# Altium footprint library dolphi_emblab.PcbLib: 128 footprints (part 6 of 8)
Each footprint in its own frame and in the unit in brackets; x right, y up, seen from the top. Pads: shape width x height; smd on the part's side, far side on the other; paste and mask are expansions set on the pad; w line width, h text height; cw(c..) or ccw(c..) is an arc to the next point about the centre after c.
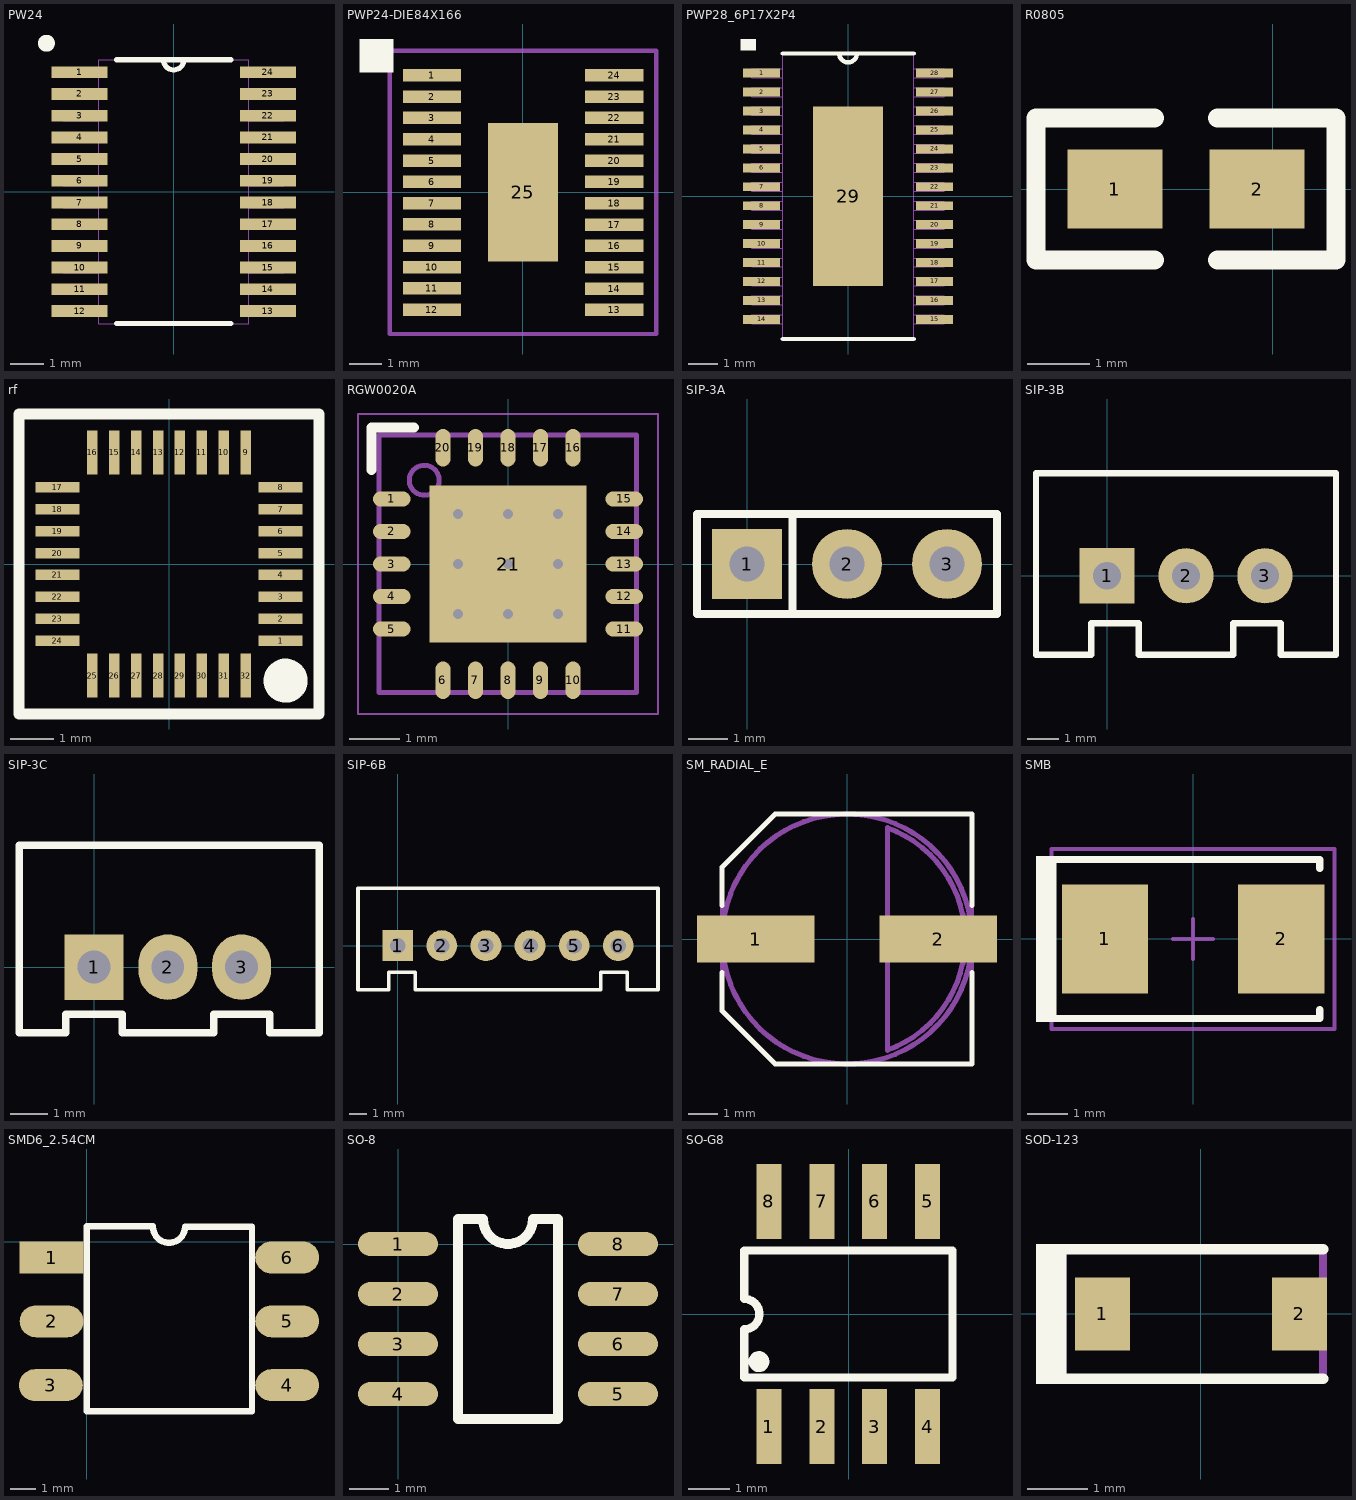
[diagram p5: the footprints below, top view; thin cyan lines are the x and y axes]

## PW24 [mil]
pads (24):
  rect 66x14 smd: 1(-111,140.75) 2(-111,115.16) 3(-111,89.57) 4(-111,63.98) 5(-111,38.39) 6(-111,12.8) 7(-111,-12.8) 8(-111,-38.39) 9(-111,-63.98) 10(-111,-89.57) 11(-111,-115.16) 12(-111,-140.75) 13(111,-140.75) 14(111,-115.16) 15(111,-89.57) 16(111,-63.98) 17(111,-38.39) 18(111,-12.8) 19(111,12.8) 20(111,38.39) 21(111,63.98) 22(111,89.57) 23(111,115.16) 24(111,140.75)
Top Overlay:
  circle w10: c-150,175 r5
  lines w6: -67.44,-155.5 67.44,-155.5 ; -67.44,155.5 67.44,155.5 ; -12,155.5 ccw(c0,155.5) 12,155.5
Mechanical 1:
  lines w0: -130,-95.57 -88.5,-95.57 -88.5,-83.57 -130,-83.57 ; -12,155.5 ccw(c0,155.5) 12,155.5 ; 130,32.39 88.5,32.39 88.5,44.39 130,44.39 ; 130,57.98 88.5,57.98 88.5,69.98 130,69.98 ; -130,-146.75 -130,-134.75 -88.5,-134.75 -88.5,-146.75 -130,-146.75 ; -130,-121.16 -130,-109.16 -88.5,-109.16 -88.5,-121.16 -130,-121.16 ; -130,-69.98 -130,-57.98 -88.5,-57.98 -88.5,-69.98 -130,-69.98 ; -130,-44.39 -130,-32.39 -88.5,-32.39 -88.5,-44.39 -130,-44.39 ; -130,-18.8 -130,-6.8 -88.5,-6.8 -88.5,-18.8 -130,-18.8 ; -130,6.8 -130,18.8 -88.5,18.8 -88.5,6.8 -130,6.8 ; -130,32.39 -130,44.39 -88.5,44.39 -88.5,32.39 -130,32.39 ; -130,57.98 -130,69.98 -88.5,69.98 -88.5,57.98 -130,57.98 ; -130,83.57 -130,95.57 -88.5,95.57 -88.5,83.57 -130,83.57 ; -130,109.16 -130,121.16 -88.5,121.16 -88.5,109.16 -130,109.16 ; -130,134.75 -130,146.75 -88.5,146.75 -88.5,134.75 -130,134.75 ; -88.5,-155.5 88.5,-155.5 88.5,155.5 -88.5,155.5 -88.5,-155.5 ; 88.5,-146.75 88.5,-134.75 130,-134.75 130,-146.75 88.5,-146.75 ; 88.5,-121.16 88.5,-109.16 130,-109.16 130,-121.16 88.5,-121.16 ; 88.5,-95.57 88.5,-83.57 130,-83.57 130,-95.57 88.5,-95.57 ; 88.5,-69.98 88.5,-57.98 130,-57.98 130,-69.98 88.5,-69.98 ; 88.5,-44.39 88.5,-32.39 130,-32.39 130,-44.39 88.5,-44.39 ; 88.5,-18.8 88.5,-6.8 130,-6.8 130,-18.8 88.5,-18.8 ; 88.5,6.8 88.5,18.8 130,18.8 130,6.8 88.5,6.8 ; 88.5,83.57 88.5,95.57 130,95.57 130,83.57 88.5,83.57 ; 88.5,109.16 88.5,121.16 130,121.16 130,109.16 88.5,109.16 ; 88.5,134.75 88.5,146.75 130,146.75 130,134.75 88.5,134.75

## PWP24-DIE84X166 [mil]
pads (25):
  rect 70x15 smd: 1(-109.3,140.5) 2(-109.3,114.9) 3(-109.3,89.3) 4(-109.3,63.7) 5(-109.3,38.1) 6(-109.3,12.5) 7(-109.3,-13.1) 8(-109.3,-38.7) 9(-109.3,-64.3) 10(-109.3,-89.9) 11(-109.3,-115.5) 12(-109.3,-141.1) 13(109.7,-141.2) 14(109.7,-115.6) 15(109.7,-90) 16(109.7,-64.4) 17(109.7,-38.8) 18(109.7,-13.2) 19(109.7,12.4) 20(109.7,38) 21(109.7,63.6) 22(109.7,89.2) 23(109.7,114.8) 24(109.7,140.5)
  rect 84x166 smd: 25(0,-0.1)
Top Overlay:
  region: -196,144 -156,144 -156,184 -196,184
Mechanical 5:
  lines w5: -160,-170.1 160,-170.1 160,169.9 -160,169.9 -160,-170.1
  text "*" at -76.6,162.6 h30
  text ".Designator" at -45,-10 h35

## PWP28_6P17X2P4 [mil]
pads (29):
  rect 50x12 smd: 1(-117,166.34) 2(-117,140.75) 3(-117,115.16) 4(-117,89.57) 5(-117,63.98) 6(-117,38.39) 7(-117,12.8) 8(-117,-12.8) 9(-117,-38.39) 10(-117,-63.98) 11(-117,-89.57) 12(-117,-115.16) 13(-117,-140.75) 14(-117,-166.34) 15(117,-166.34) 16(117,-140.75) 17(117,-115.16) 18(117,-89.57) 19(117,-63.98) 20(117,-38.39) 21(117,-12.8) 22(117,12.8) 23(117,38.39) 24(117,63.98) 25(117,89.57) 26(117,115.16) 27(117,140.75) 28(117,166.34)
  rect 94.49x242.91 smd: 29(0,0)
Top Overlay:
  region: -145,212.5 -135,212.5 -135,197.5 -145,197.5
  region: -125,212.5 -135,212.5 -135,197.5 -125,197.5
  lines w6: -88.5,-192.91 88.5,-192.91 ; -88.5,192.91 88.5,192.91 ; -12,192.91 ccw(c0,192.91) 12,192.91
Mechanical 1:
  lines w0: -12,192.91 ccw(c0,192.91) 12,192.91 ; -130,-172.34 -88.5,-172.34 -88.5,-160.34 -130,-160.34 -130,-172.34 ; -130,-146.75 -88.5,-146.75 -88.5,-134.75 -130,-134.75 -130,-146.75 ; -130,-121.16 -88.5,-121.16 -88.5,-109.16 -130,-109.16 -130,-121.16 ; -130,-95.57 -88.5,-95.57 -88.5,-83.57 -130,-83.57 -130,-95.57 ; -130,-69.98 -88.5,-69.98 -88.5,-57.98 -130,-57.98 -130,-69.98 ; -130,-44.39 -88.5,-44.39 -88.5,-32.39 -130,-32.39 -130,-44.39 ; -130,-18.8 -88.5,-18.8 -88.5,-6.8 -130,-6.8 -130,-18.8 ; -130,6.8 -88.5,6.8 -88.5,18.8 -130,18.8 -130,6.8 ; -130,32.39 -88.5,32.39 -88.5,44.39 -130,44.39 -130,32.39 ; -130,57.98 -88.5,57.98 -88.5,69.98 -130,69.98 -130,57.98 ; -130,83.57 -88.5,83.57 -88.5,95.57 -130,95.57 -130,83.57 ; -130,109.16 -88.5,109.16 -88.5,121.16 -130,121.16 -130,109.16 ; -130,134.75 -88.5,134.75 -88.5,146.75 -130,146.75 -130,134.75 ; -130,160.34 -88.5,160.34 -88.5,172.34 -130,172.34 -130,160.34 ; -88.5,-192.91 -88.5,192.91 88.5,192.91 88.5,-192.91 -88.5,-192.91 ; 88.5,-172.34 130,-172.34 130,-160.34 88.5,-160.34 88.5,-172.34 ; 88.5,-146.75 130,-146.75 130,-134.75 88.5,-134.75 88.5,-146.75 ; 88.5,-121.16 130,-121.16 130,-109.16 88.5,-109.16 88.5,-121.16 ; 88.5,-95.57 130,-95.57 130,-83.57 88.5,-83.57 88.5,-95.57 ; 88.5,-69.98 130,-69.98 130,-57.98 88.5,-57.98 88.5,-69.98 ; 88.5,-44.39 130,-44.39 130,-32.39 88.5,-32.39 88.5,-44.39 ; 88.5,-18.8 130,-18.8 130,-6.8 88.5,-6.8 88.5,-18.8 ; 88.5,6.8 130,6.8 130,18.8 88.5,18.8 88.5,6.8 ; 88.5,32.39 130,32.39 130,44.39 88.5,44.39 88.5,32.39 ; 88.5,57.98 130,57.98 130,69.98 88.5,69.98 88.5,57.98 ; 88.5,83.57 130,83.57 130,95.57 88.5,95.57 88.5,83.57 ; 88.5,109.16 130,109.16 130,121.16 88.5,121.16 88.5,109.16 ; 88.5,134.75 130,134.75 130,146.75 88.5,146.75 88.5,134.75 ; 88.5,160.34 130,160.34 130,172.34 88.5,172.34 88.5,160.34

## R0805 [mil]
pads (2):
  rect 60x50 smd: 1(-100,0) 2(-10,0)
Top Overlay:
  lines w12: -75,-45 -150,-45 -150,45 -75,45 ; -35,-45 40,-45 40,45 -35,45

## rf [mm]
pads (32):
  rect 1x0.24 smd: 1(2.55,-1.75) 2(2.55,-1.25) 3(2.55,-0.75) 4(2.55,-0.25) 5(2.55,0.25) 6(2.55,0.75) 7(2.55,1.25) 8(2.55,1.75) 17(-2.55,1.75) 18(-2.55,1.25) 19(-2.55,0.75) 20(-2.55,0.25) 21(-2.55,-0.25) 22(-2.55,-0.75) 23(-2.55,-1.25) 24(-2.55,-1.75)
  rect 0.24x1 smd: 9(1.75,2.55) 10(1.25,2.55) 11(0.75,2.55) 12(0.25,2.55) 13(-0.25,2.55) 14(-0.75,2.55) 15(-1.25,2.55) 16(-1.75,2.55) 25(-1.75,-2.55) 26(-1.25,-2.55) 27(-0.75,-2.55) 28(-0.25,-2.55) 29(0.25,-2.55) 30(0.75,-2.55) 31(1.25,-2.55) 32(1.75,-2.55)
Top Overlay:
  circle w0.5: c2.667,-2.667 r0.254
  lines w0.254: -3.429,-3.429 -3.429,3.429 3.429,3.429 3.429,-3.429 -3.429,-3.429

## RGW0020A [mm] "QFN, 20-Leads, Body 5x5mm, Pitch 0.65mm, Thermal Pad 3.15x3.15mm, TI Recommended"
height 1
pads (21):
  oval 0.75x0.3 smd mask+0.07: 1(-2.325,1.3) 2(-2.325,0.65) 3(-2.325,0) 4(-2.325,-0.65) 5(-2.325,-1.3) 11(2.325,-1.3) 12(2.325,-0.65) 13(2.325,0) 14(2.325,0.65) 15(2.325,1.3)
  oval 0.3x0.75 smd mask+0.07: 6(-1.3,-2.325) 7(-0.65,-2.325) 8(0,-2.325) 9(0.65,-2.325) 10(1.3,-2.325) 16(1.3,2.325) 17(0.65,2.325) 18(0,2.325) 19(-0.65,2.325) 20(-1.3,2.325)
  rect 3.15x3.15 smd paste-1.575 mask+0.07: 21(0,0)
via -1,1 diameter 0.5 hole 0.2
via 0,1 diameter 0.5 hole 0.2
via 1,1 diameter 0.5 hole 0.2
via -1,0 diameter 0.5 hole 0.2
via 0,0 diameter 0.5 hole 0.2
via 1,0 diameter 0.5 hole 0.2
via -1,-1 diameter 0.5 hole 0.2
via 0,-1 diameter 0.5 hole 0.2
via 1,-1 diameter 0.5 hole 0.2
Top Overlay:
  lines w0.2: -2.725,1.875 -2.725,2.725 -1.875,2.725
Top Paste:
  rectangle: 0.1,0.1 1.468,1.468
  region: -0.1,1.468 -1.468,1.468 -1.468,0.1 -0.1,0.1
  region: -0.1,-0.1 -1.468,-0.1 -1.468,-1.468 -0.1,-1.468
  rectangle: 0.1,-1.468 1.468,-0.1
Mechanical 5:
  circle w0.1: c-1.675,1.675 r0.3
  lines w0.1: -2.575,-2.575 -2.575,2.575 2.575,2.575 2.575,-2.575 -2.575,-2.575
Mechanical 15:
  lines w0.05: -3,-3 -3,3 3,3 3,-3 -3,-3
  lines w0.1: -0.5,0 0.5,0 ; 0,-0.5 0,0.5
3D body: height 1, standoff 0, extent -2.575,-2.575 2.575,2.575
3D body: height 1.01, standoff 0.5, extent -1.98,1.37 -1.37,1.98

## SIP-3A [mil]
pads (3):
  rect 70x70 hole 35: 1(0,0)
  round 70 hole 35: 2(100,0) 3(200,0)
Top Overlay:
  lines w8: 45.67,-49.21 45.67,47.24 ; -50,-50 -50,50 250,50 250,-50 -50,-50

## SIP-3B [mil] "间距2.54mm"
pads (3):
  rect 70x70 hole 35: 1(0,0)
  round 70 hole 35: 2(100,0) 3(200,0)
Top Overlay:
  lines w8: -90,-100 -20,-100 -20,-60 40,-60 40,-100 160,-100 160,-60 220,-60 220,-100 290,-100 290,130 -90,130 -90,-100

## SIP-3C [mil] "间距2mm"
pads (3):
  rect 62.99x70 hole 35: 1(0,0)
  oval 62.99x70 hole 35: 2(78.74,0) 3(157.48,0)
Top Overlay:
  lines w8: -80,-70 -30,-70 -30,-50 30,-50 30,-70 127.48,-70 127.48,-50 187.48,-50 187.48,-70 240,-70 240,130 -80,130 -80,-70

## SIP-6B [mil]
height 270.08
pads (6):
  rect 70x70 hole 35: 1(0,0)
  round 70 hole 35: 2(100,0) 3(200,0) 4(300,0) 5(400,0) 6(500,0)
Top Overlay:
  lines w8: -90,-100 -90,130 590,130 590,-100 520,-100 520,-60 460,-60 460,-100 40,-100 40,-60 -20,-60 -20,-100 -90,-100

## SM_RADIAL_E [mm] "8 x 6.2mm:  Panasonic E"
height 6.5
pads (2):
  rect 4x1.6 smd: 1(-3.1,0) 2(3.1,0)
Top Overlay:
  lines w0.178: -4.25,-1.15 -4.25,-2.44 -2.44,-4.25 0,-4.25 4.25,-4.25 4.25,-1.15 ; -4.25,1.15 -4.25,2.44 -2.44,4.25 0,4.25 4.25,4.25 4.25,1.15
Mechanical 5:
  lines w0.127: -4.25,-2.44 -2.44,-4.25 0,-4.25 4.25,-4.25 4.25,4.25 0,4.25 -2.44,4.25 -4.25,2.44 -4.25,-2.44
Mechanical 13:
  circle w0.178: c0,0 r4.25
  lines w0.178: 1.376,-3.779 ccw(c0,0) 1.376,3.779 1.376,-3.779
3D body: height 0.6, standoff 0, extent -4.251,-4.251 4.251,4.251
3D body: height 6.5, standoff 0.6, extent -4.259,-4.259 4.259,4.259
3D body: height 6.5, standoff 6.4, extent 1.375,-3.784 4.035,3.784

## SMB [mm] "Molded Diode, 2-Leads, Body 5.4x3.6mm, IPC Medium Density, based on OnSemi component dimensions"
height 2.45
pads (2):
  rect 2.159x2.743 smd: 1(-2.21,0) 2(2.21,0)
Top Overlay:
  rectangle: -3.937,-2.083 -3.429,2.083
  lines w0.178: -3.607,-1.994 3.175,-1.994 3.175,-1.765 ; -3.607,1.994 3.175,1.994 3.175,1.765
Mechanical 15:
  lines w0.1: -0.5,0 0.5,0 ; 0,-0.5 0,0.5 ; -3.55,-2.25 3.55,-2.25 3.55,2.25 -3.55,2.25 -3.55,-2.25
3D body: height 2.32, standoff 0.02, extent -2.7,-1.8 2.7,1.8

## SMD6_2.54CM [mil]
height 39.37
pads (6):
  rect 100x50 smd: 1(-55,-25)
  oval 100x50 smd: 2(-55,-125) 3(-56,-225) 4(314,-225) 5(314,-125) 6(314,-25)
Top Overlay:
  lines w10: 104,23 ccw(c129,23) 154,23 259,23 259,-266 0,-266 0,24 104,24

## SO-8 [mil]
height 270.08
pads (8):
  oval 80x24 smd: 1(0,0) 2(0,-50) 3(0,-100) 4(0,-150) 5(220,-150) 6(220,-100) 7(220,-50) 8(220,0)
Top Overlay:
  lines w10: 60,-175 60,25 85,25 ccw(c110,25) 135,25 160,25 160,-175 60,-175

## SO-G8 [mm]
height 2.5
pads (8):
  rect 0.6x1.8 smd: 1(-1.916,-2.7) 2(-0.646,-2.7) 3(0.624,-2.7) 4(1.894,-2.7) 5(1.894,2.7) 6(0.624,2.7) 7(-0.646,2.7) 8(-1.916,2.7)
Top Overlay:
  circle w0.25: c-2.157,-1.143 r0.125
  lines w0.2: -2.511,-1.524 -2.511,-0.369 ccw(c-2.511,-0.002) -2.511,0.365 -2.511,1.524 2.489,1.524 2.489,-1.524 -2.511,-1.524

## SOD-123 [mm] "On Semi recommended land pattern"
height 1.35
pads (2):
  rect 0.915x1.22 smd: 1(-1.637,0) 2(1.637,0)
Top Overlay:
  rectangle: -2.743,-1.169 -2.235,1.168
  lines w0.178: -2.413,-1.079 2.032,-1.079 ; -2.413,1.079 2.032,1.079
Mechanical 5:
  rectangle: -2.743,-1.169 -2.235,1.168
  lines w0.127: -2.413,-1.079 2.032,-1.079 2.032,1.079 -2.413,1.079
3D body: height 1.35, standoff 0, extent -1.932,-0.9 1.932,0.9